# Altium schematic symbol library Mechanical.SchLib: 18 symbols
Pins are listed as number, name and electrical type; pins without a type are passive.

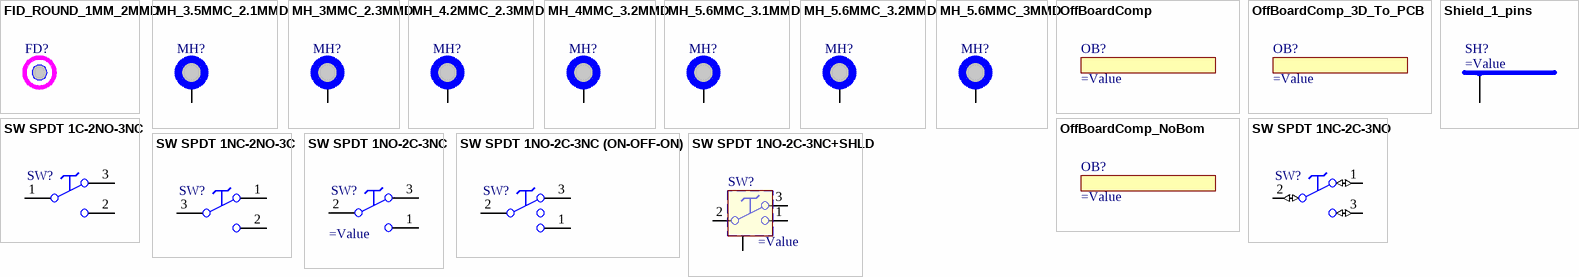
[diagram p0: symbols FID_ROUND_1MM_2MMD to SW SPDT 1NO-2C-3NC+SHLD]

## FID_ROUND_1MM_2MMD
designator FD?, comment Fiducial - Round  (value not drawn)  (no BOM)
Fiducial round 1mm Diameter, 2mm Mask
footprint FID_1MM_2MMD

## MH_3.5MMC_2.1MMD
designator MH?, comment Mounting Hole  (value not drawn)  (no BOM)
Mounting Hole 3.5mm Diameter, 2.1mm Drill
footprint MH_3.5MMC_2.1MMD (Mounting Hole 3.5mm Diameter, 2.1mm Drill)
pins: 1

## MH_3MMC_2.3MMD
designator MH?, comment Mounting Hole  (value not drawn)  (no BOM)
Mounting Hole 3mm Diameter, 2.3mm Drill
footprint MH_3MMC_2.3MMD (Mounting Hole 3mm Diameter, 2.2mm Drill)
pins: 1

## MH_4.2MMC_2.3MMD
designator MH?, comment Mounting Hole  (value not drawn)  (no BOM)
Mounting Hole 4.2mm Diameter, 2.3mm Drill
footprint MH_4.2MMC_2.3MMD (Mounting Hole 4.2mm Diameter, 2.2mm Drill)
pins: 1

## MH_4MMC_3.2MMD
designator MH?, comment Mounting Hole  (value not drawn)  (no BOM)
Mounting Hole 4mm Diameter, 3.2mm Drill
footprint MH_4MMC_3.2MMD (Mounting Hole 4mm Diameter, 3.2mm Drill)
pins: 1

## MH_5.6MMC_3.1MMD
designator MH?, comment Mounting Hole  (value not drawn)  (no BOM)
Mounting Hole 5.6mm Diameter, 3.1mm Drill
footprint MH_5.6MMC_3.1MMD (Mounting Hole 5.6mm Diameter, 3.1mm Drill)
pins: 1

## MH_5.6MMC_3.2MMD
designator MH?, comment Mounting Hole  (value not drawn)  (no BOM)
Mounting Hole 5.6mm Diameter, 3.2mm Drill
footprint MH_5.6MMC_3.2MMD (Mounting Hole 5.6mm Diameter, 3.2mm Drill)
pins: 1

## MH_5.6MMC_3MMD
designator MH?, comment Mounting Hole  (value not drawn)  (no BOM)
Mounting Hole 5.6mm Diameter, 3mm Drill
footprint MH_5.6MMC_3MMD (Mounting Hole 5.6mm Diameter, 3mm Drill)
pins: 1

## OffBoardComp
designator OB?  (mechanical)
A simbol for an OFF-board component that needs to be tied in BOM

## OffBoardComp_3D_To_PCB
designator OB?
A simbol for an OFF-board component that needs to be tied in BOM and in PCB

## OffBoardComp_NoBom
designator OB?  (no BOM)
A simbol for an OFF-board component that not  tied in BOM

## Shield_1_pins
designator SH?
pins: SH

## SW SPDT 1C-2NO-3NC
designator SW?
SPDT Switch
pins: 1, 2, 3

## SW SPDT 1NC-2C-3NO
designator SW?
SPDT Switch
pins: 1 NC (io), 2 C (io), 3 NO (io)

## SW SPDT 1NC-2NO-3C
designator SW?
SPDT Switch
pins: 1, 2, 3

## SW SPDT 1NO-2C-3NC
designator SW?
SPDT Switch
pins: 1 NO, 2 C, 3 NC

## SW SPDT 1NO-2C-3NC (ON-OFF-ON)
designator SW?
SPDT Switch
pins: 1 NO, 2 C, 3 NC

## SW SPDT 1NO-2C-3NC+SHLD
designator SW?
SPDT Switch
pins: 1 NO, 2 C, 3 NC, SHLD